# Altium schematic symbol library SCH - MCU - ATTINY - MICROCHIP ATTINY1616-SFR SOIC20.SchLib: 1 symbol
Pins are listed as number, name and electrical type; pins without a type are passive.

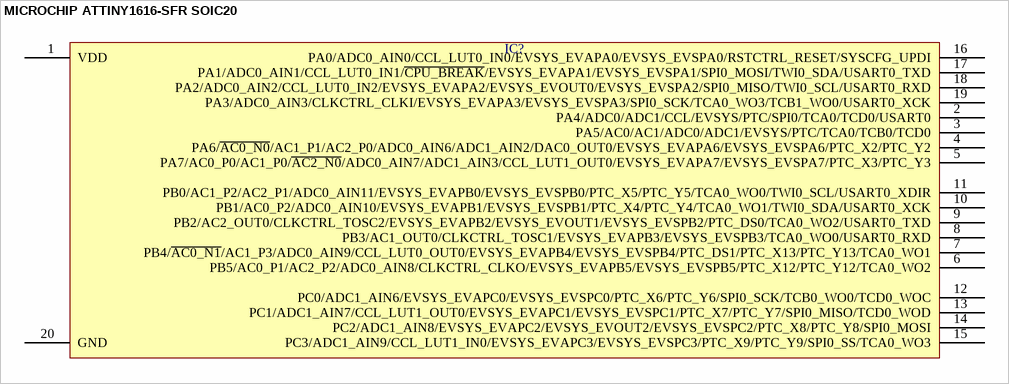
[diagram p0: symbol MICROCHIP ATTINY1616-SFR SOIC20]

## MICROCHIP ATTINY1616-SFR SOIC20
designator IC?  (value not drawn)
pins: 1 VDD, 2 PA4/ADC0/ADC1/CCL/EVSYS/PTC/SPI0/TCA0/TCD0/USART0, 3 PA5/AC0/AC1/ADC0/ADC1/EVSYS/PTC/TCA0/TCB0/TCD0, 4 PA6/~{AC0_N0}/AC1_P1/AC2_P0/ADC0_AIN6/ADC1_AIN2/DAC0_OUT0/EVSYS_EVAPA6/EVSYS_EVSPA6/PTC_X2/PTC_Y2, 5 PA7/AC0_P0/AC1_P0/~{AC2_N0}/ADC0_AIN7/ADC1_AIN3/CCL_LUT1_OUT0/EVSYS_EVAPA7/EVSYS_EVSPA7/PTC_X3/PTC_Y3, 6 PB5/AC0_P1/AC2_P2/ADC0_AIN8/CLKCTRL_CLKO/EVSYS_EVAPB5/EVSYS_EVSPB5/PTC_X12/PTC_Y12/TCA0_WO2, 7 PB4/~{AC0_N1}/AC1_P3/ADC0_AIN9/CCL_LUT0_OUT0/EVSYS_EVAPB4/EVSYS_EVSPB4/PTC_DS1/PTC_X13/PTC_Y13/TCA0_WO1, 8 PB3/AC1_OUT0/CLKCTRL_TOSC1/EVSYS_EVAPB3/EVSYS_EVSPB3/TCA0_WO0/USART0_RXD, 9 PB2/AC2_OUT0/CLKCTRL_TOSC2/EVSYS_EVAPB2/EVSYS_EVOUT1/EVSYS_EVSPB2/PTC_DS0/TCA0_WO2/USART0_TXD, 10 PB1/AC0_P2/ADC0_AIN10/EVSYS_EVAPB1/EVSYS_EVSPB1/PTC_X4/PTC_Y4/TCA0_WO1/TWI0_SDA/USART0_XCK, 11 PB0/AC1_P2/AC2_P1/ADC0_AIN11/EVSYS_EVAPB0/EVSYS_EVSPB0/PTC_X5/PTC_Y5/TCA0_WO0/TWI0_SCL/USART0_XDIR, 12 PC0/ADC1_AIN6/EVSYS_EVAPC0/EVSYS_EVSPC0/PTC_X6/PTC_Y6/SPI0_SCK/TCB0_WO0/TCD0_WOC, 13 PC1/ADC1_AIN7/CCL_LUT1_OUT0/EVSYS_EVAPC1/EVSYS_EVSPC1/PTC_X7/PTC_Y7/SPI0_MISO/TCD0_WOD, 14 PC2/ADC1_AIN8/EVSYS_EVAPC2/EVSYS_EVOUT2/EVSYS_EVSPC2/PTC_X8/PTC_Y8/SPI0_MOSI, 15 PC3/ADC1_AIN9/CCL_LUT1_IN0/EVSYS_EVAPC3/EVSYS_EVSPC3/PTC_X9/PTC_Y9/SPI0_SS/TCA0_WO3, 16 PA0/ADC0_AIN0/CCL_LUT0_IN0/EVSYS_EVAPA0/EVSYS_EVSPA0/RSTCTRL_RESET/SYSCFG_UPDI, 17 PA1/ADC0_AIN1/CCL_LUT0_IN1/~{CPU_BREAK}/EVSYS_EVAPA1/EVSYS_EVSPA1/SPI0_MOSI/TWI0_SDA/USART0_TXD, 18 PA2/ADC0_AIN2/CCL_LUT0_IN2/EVSYS_EVAPA2/EVSYS_EVOUT0/EVSYS_EVSPA2/SPI0_MISO/TWI0_SCL/USART0_RXD, 19 PA3/ADC0_AIN3/CLKCTRL_CLKI/EVSYS_EVAPA3/EVSYS_EVSPA3/SPI0_SCK/TCA0_WO3/TCB1_WO0/USART0_XCK, 20 GND